# EAGLE library part 653110124022 (library Wire-to-Board (rev18a))
WR-WTB 1.25mm SMT Male Vertical Shrouded Header, 10 Pins=>Code : Con_WTB_1.25_PCB_SMT_653110124022 <http://katalog.we-online.de/media/thumbs2/eican/thb_Con_WTB_1.25_PCB_SMT_6530xx124022_pf2.psd.jpg> Details see: http://katalog.we-online.de/en/em/WTB_1_25_SMT_MALE_VERTICAL_SHROUDED_HEADER_6531XX124022 Created 2014-06-06, Karrer Zheng 2014 (C) Würth Elektronik
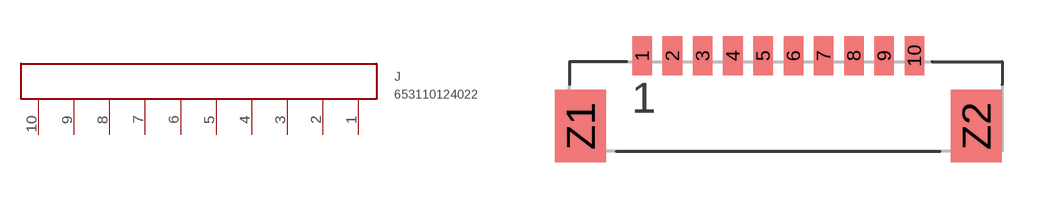
[diagram p57: symbol with the pads of 653110124022; footprint 653110124022]

Designator prefix J

## 653110124022  [653110124022]
1  10  pas
2  9  pas
3  8  pas
4  7  pas
5  6  pas
6  5  pas
7  4  pas
8  3  pas
9  2  pas
10  1  pas

## Footprint 653110124022 (pad centres in mm)
WR-WTB 1.25mm SMT Male Vertical Shrouded Header, 10 Pins
smd 0.81 x 1.6: 1 -5.625,0; 2 -4.375,0; 3 -3.125,0; 4 -1.875,0; 5 -0.625,0; 6 0.625,0; 7 1.875,0; 8 3.125,0; 9 4.375,0; 10 5.625,0
smd 2.1 x 3: Z1 -8.175,-2.9; Z2 8.175,-2.9